# Altium schematic symbol library Arduino.SchLib: 2 symbols
Pins are listed as number, name and electrical type; pins without a type are passive.

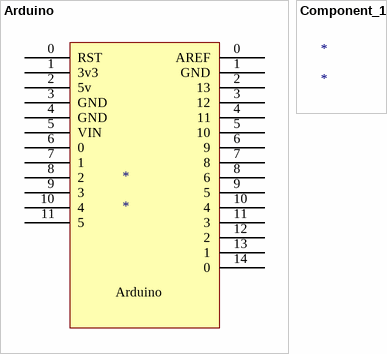
[diagram p0: symbols Arduino to Component_1]

## Arduino
designator *
pins: 0 RST, 0 AREF, 1 3v3, 1 GND, 2 5v, 2 13, 3 GND, 3 12, 4 GND, 4 11, 5 VIN, 5 10, 6 0, 6 9, 7 1, 7 8, 8 2, 8 6, 9 3, 9 5, 10 4, 10 4, 11 5, 11 3, 12 2, 13 1, 14 0

## Component_1
designator *